# EAGLE library part RFM63B_63W_64B_64W (library hoperf)
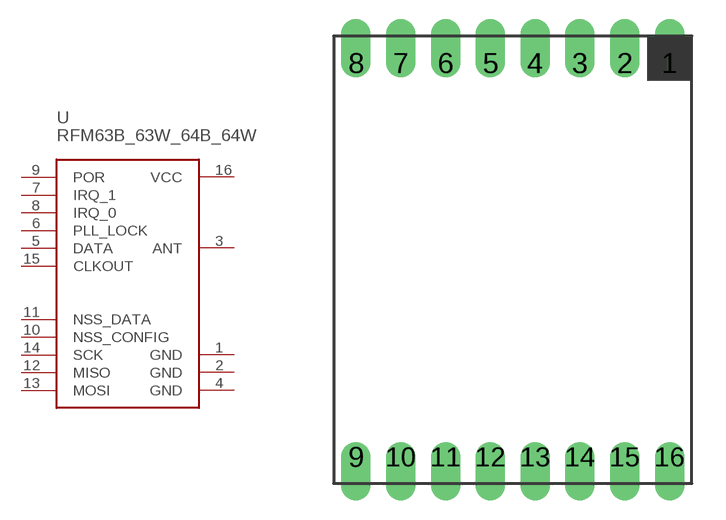
[diagram p5: symbol with the pads of MODULE_20X12_16PIN; footprint MODULE_20X12_16PIN]

Designator prefix -

## RFM63B_63W_64B_64W  [MODULE_20X12_16PIN]
1  GND
2  GND
3  ANT
4  GND
5  DATA
6  PLL_LOCK
7  IRQ_1
8  IRQ_0
9  POR
10  NSS_CONFIG
11  NSS_DATA
12  MISO
13  MOSI
14  SCK
15  CLKOUT
16  VCC

## Footprint MODULE_20X12_16PIN (pad centres in mm)
drill 0.8 offset: 1 7,8.8; 2 5,8.8; 3 3,8.8; 4 1,8.8; 5 -1,8.8; 6 -3,8.8; 7 -5,8.8; 8 -7,8.8; 9 -7,-8.8; 10 -5,-8.8; 11 -3,-8.8; 12 -1,-8.8; 13 1,-8.8; 14 3,-8.8; 15 5,-8.8; 16 7,-8.8